# EAGLE library part ACS716 (library Bauteile)
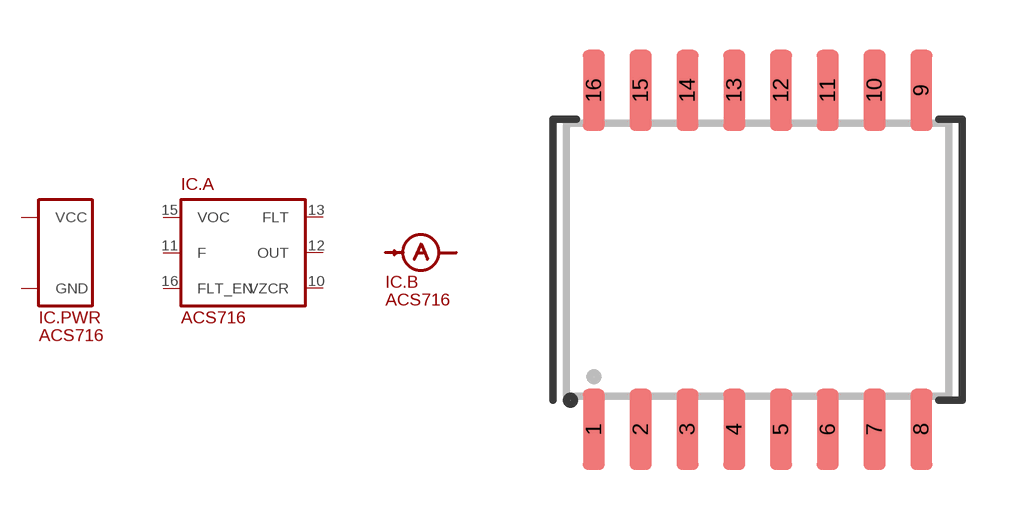
[diagram p61: symbol with the pads of SO16W; footprint SO16W]

Designator prefix IC; gates .PWR=SUPPLY_VCC/GND .A=ACS716 .B=AMPEREMETER

## ACS716  [SO16W]
1  .B:+
2  .B:+
3  .B:+
4  .B:+
5  .B:-
6  .B:-
7  .B:-
8  .B:-
9  .PWR:GND
10  .A:VZCR
11  .A:F
12  .A:OUT
13  .A:FLT
14  .PWR:VCC
15  .A:VOC
16  .A:FLT_EN

## Footprint SO16W (pad centres in mm)
smd 0.6 x 2.2: 1 -4.445,-4.6; 2 -3.175,-4.6; 3 -1.905,-4.6; 4 -0.635,-4.6; 5 0.635,-4.6; 6 1.905,-4.6; 7 3.175,-4.6; 8 4.445,-4.6; 9 4.445,4.6; 10 3.175,4.6; 11 1.905,4.6; 12 0.635,4.6; 13 -0.635,4.6; 14 -1.905,4.6; 15 -3.175,4.6; 16 -4.445,4.6